# EAGLE library part LIS3DHTR (library LIS3DHTR-STM)
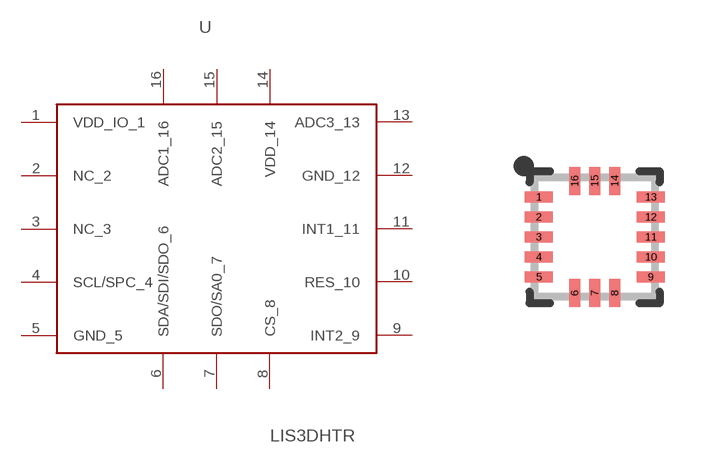
[diagram p0: symbol with the pads of LGA-16-3X3; footprint LGA-16-3X3]

Designator prefix -

## LIS3DHTR  [LGA-16-3X3]
1  VDD_IO_1  pwr
2  NC_2  nc
3  NC_3  nc
4  SCL/SPC_4  in
5  GND_5  pwr
6  SDA/SDI/SDO_6  out
7  SDO/SA0_7  out
8  CS_8  in
9  INT2_9  out
10  RES_10  in
11  INT1_11  out
12  GND_12  pwr
13  ADC3_13  out
14  VDD_14  pwr
15  ADC2_15  out
16  ADC1_16  out

## Footprint LGA-16-3X3 (pad centres in mm)
16-Pin Land Grid Array (LGA) (3 x 3 mm) Datasheet <https://www.sparkfun.com/datasheets/Sensors/Accelerometer/LIS331HH.pdf> Specifications: Pin Count: 16 Area: 3.0 x 3.0 x 1.0 mm Pitch: 0.5 mm Devices Using: LIS331 LIS3DH
smd 0.7 x 0.28: 1 -1.4,1; 2 -1.4,0.5; 3 -1.4,0; 4 -1.4,-0.5; 5 -1.4,-1; 9 1.4,-1; 10 1.4,-0.5; 11 1.4,0; 12 1.4,0.5; 13 1.4,1
smd 0.28 x 0.7: 6 -0.5,-1.4; 7 0,-1.4; 8 0.5,-1.4; 14 0.5,1.4; 15 0,1.4; 16 -0.5,1.4